# Altium footprint library Relay_PCB.PcbLib: 1 footprints
Each footprint in its own frame and in the unit in brackets; x right, y up, seen from the top. Pads: shape width x height; smd on the part's side, far side on the other; paste and mask are expansions set on the pad; w line width, h text height; cw(c..) or ccw(c..) is an arc to the next point about the centre after c.
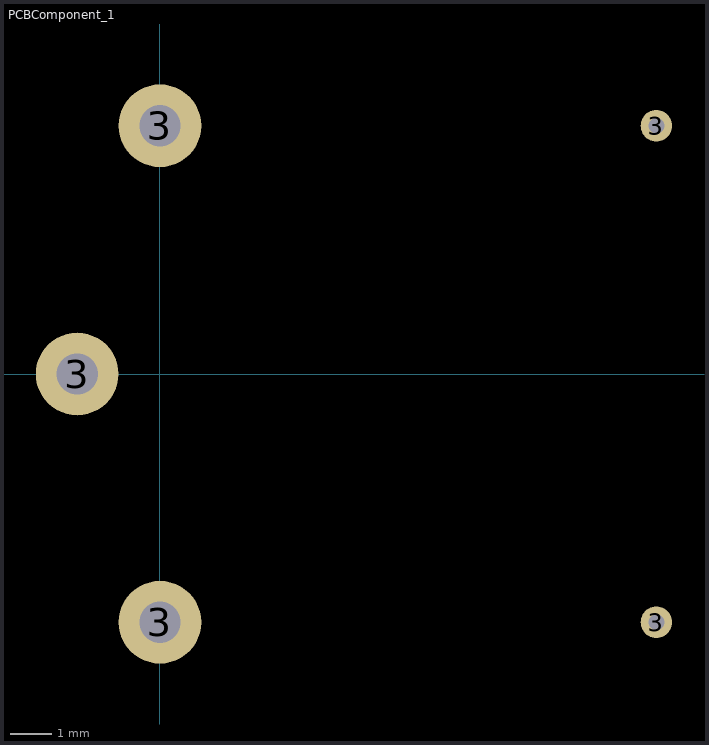
[diagram p0: the footprint, top view; thin cyan lines are the x and y axes]

## PCBComponent_1 [mm]
pads (5):
  round 2 hole 1 mask+0.025: 3(-2,0) 3(0,-6) 3(0,6)
  round 0.762 hole 0.381 mask+0.025: 3(12,-6) 3(12,6)